# EAGLE library part M112 (library dec-m)
10 2-input NOR Gates
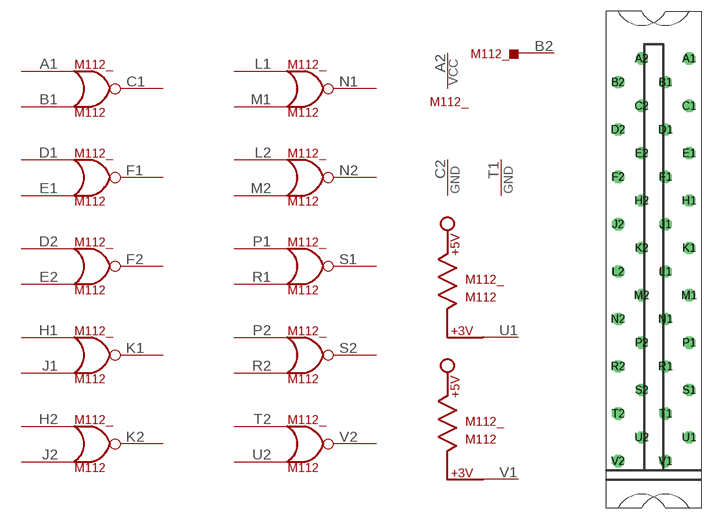
[diagram p112: symbol with the pads of H807; footprint H807]

Designator prefix M112_; gates C1=NOR2 F1=NOR2 F2=NOR2 K1=NOR2 K2=NOR2 N1=NOR2 N2=NOR2 S1=NOR2 S2=NOR2 V2=NOR2 G$11=VCC G$12=GND G$13=GND U1=PULL-UP V1=PULL-UP B2=PIN

## M112  [H807]
A1  C1:IN1  in
A2  G$11:VCC  pwr
B1  C1:IN2  in
B2  B2:P$2
C1  C1:OUT  out
C2  G$12:GND  pwr
D1  F1:IN1  in
D2  F2:IN1  in
E1  F1:IN2  in
E2  F2:IN2  in
F1  F1:OUT  out
F2  F2:OUT  out
H1  K1:IN1  in
H2  K2:IN1  in
J1  K1:IN2  in
J2  K2:IN2  in
K1  K1:OUT  out
K2  K2:OUT  out
L1  N1:IN1  in
L2  N2:IN1  in
M1  N1:IN2  in
M2  N2:IN2  in
N1  N1:OUT  out
N2  N2:OUT  out
P1  S1:IN1  in
P2  S2:IN1  in
R1  S1:IN2  in
R2  S2:IN2  in
S1  S1:OUT  out
S2  S2:OUT  out
T1  G$13:GND  pwr
T2  V2:IN1  in
U1  U1:P$1  pas
U2  V2:IN2  in
V1  V1:P$1  pas
V2  V2:OUT  out

## Footprint H807 (pad centres in mm)
One-wide female edge connector
drill 1.092 octagon: A1 4.763,28.575; A2 -1.587,28.575; B1 1.587,25.4; B2 -4.763,25.4; C1 4.763,22.225; C2 -1.587,22.225; D1 1.587,19.05; D2 -4.763,19.05; E1 4.763,15.875; E2 -1.587,15.875; F1 1.587,12.7; F2 -4.763,12.7; H1 4.763,9.525; H2 -1.587,9.525; J1 1.587,6.35; J2 -4.763,6.35; K1 4.763,3.175; K2 -1.587,3.175; L1 1.587,0; L2 -4.763,0; M1 4.763,-3.175; M2 -1.587,-3.175; N1 1.587,-6.35; N2 -4.763,-6.35; P1 4.763,-9.525; P2 -1.587,-9.525; R1 1.587,-12.7; R2 -4.763,-12.7; S1 4.763,-15.875; S2 -1.587,-15.875; T1 1.587,-19.05; T2 -4.763,-19.05; U1 4.763,-22.225; U2 -1.587,-22.225; V1 1.587,-25.4; V2 -4.763,-25.4